# Altium schematic symbol library Mosfet.SchLib: 31 symbols
Pins are listed as number, name and electrical type; pins without a type are passive.

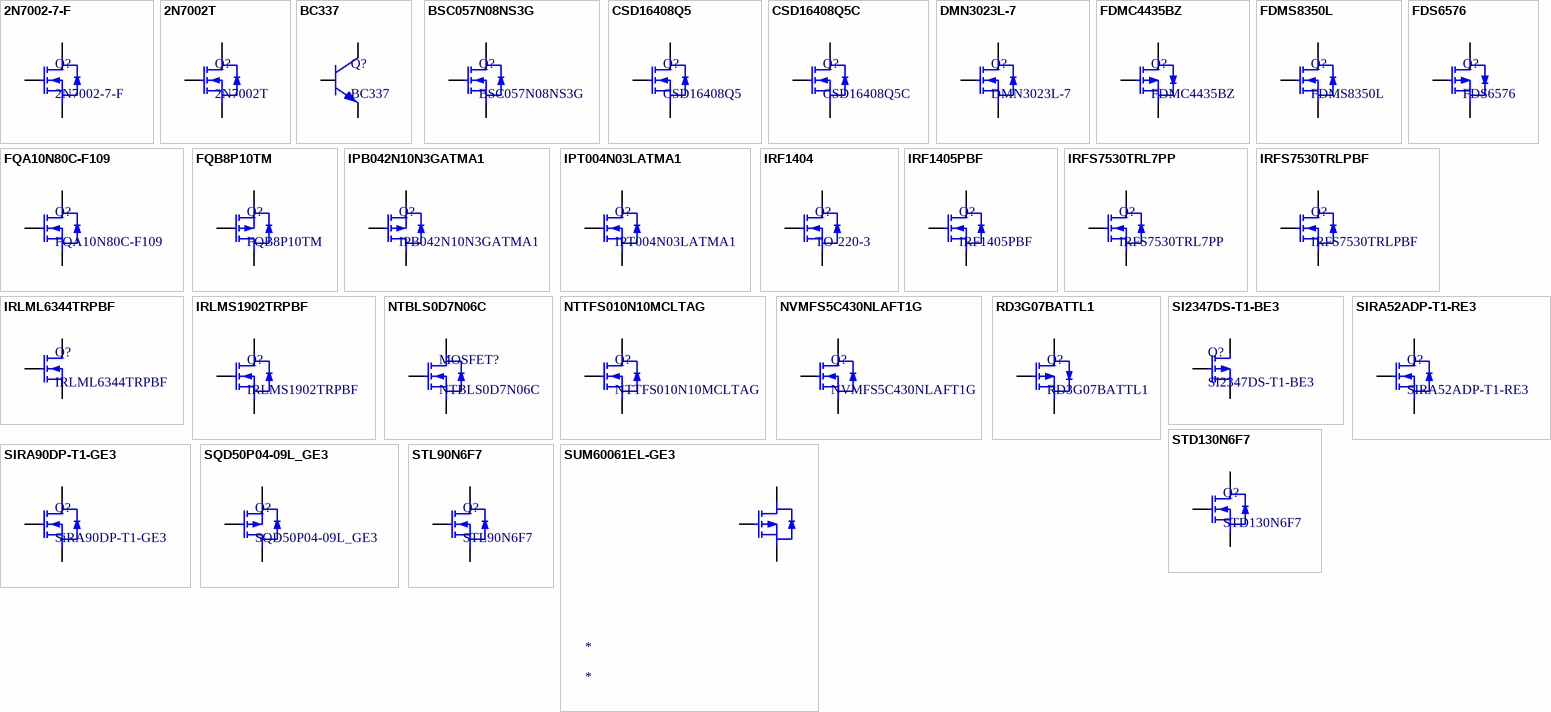
[diagram p0: symbols 2N7002-7-F to SUM60061EL-GE3]

## 2N7002-7-F
designator Q?
MOSFET N-CH 60V SOT-23-3; Manufacturer: DIODES; FET Type: N-Channel; Rds On (Max) @ Id, Vgs: 5 ohm @ 210mA, 20V; Input Capacitance (Ciss) (Max) @Vds: 22pF; Vgs(th) (Max) Id: 2.5V, Id =250uA; Current - Continuous Drain (Id) @25°C: 210mA; Gate Charge (Qg) (Max) @ Vgs: 223pC @ 4.5V; Library Control - Checked Footprint: yes; Library Control - Person that Checked Footprint: Lucas; Power Dissipation (Max): 540 mW; Drive Voltage (Max Rds On, Min Rds On): 5V ~ 10V; Vgs (Max): 20V; Rise / Fall Time (Typ): 3.0 ~ 5.6 (ns); Part Number: 2N7002-7-F; Price: 1=0,20, 10=0,185, 100=0,101, 500=0,062, 1000=0,043 (USD); Package / Case: SOT-23-3; Operating Temperature: -55 °C ~150 °C; Drain to Source Voltage (Vds): 60V; Supplier 1: Mouser; Library Ref: Mosfet; Supplier Part Number 1: 621-2N7002-F; Library Control - Checked Schematic: yes; Library Control - Last Update: 20/06/2021; Library Control - Person that Checked Schematic: Lucas; Library Control - Person that did the Last Update Footprint: Lucas; Library Control - Person that did the Last Update Schematic: Lucas; ComponentLink1Description: Datasheet; ComponentLink1URL: https://www.mouser.com/datasheet/2/115/2N7002-1591994.pdf; ComponentLink2Description: Mouser; ComponentLink2URL: https://www.mouser.com/ProductDetail/Diodes-Incorporated/2N7002-7-F?qs=%2Fha2pyFadugo8BbqEmDB8lzlZH6QdgQJut9pp8zbUks%3D
footprint SOT-23 (SOT23, 3-Leads, Body 2.90x2.40mm, Pitch 0.95mm, IPC Medium Density)
pins: D, G, S

## 2N7002T
designator Q?
MOSFET N-CH 60V 115mA SOT-523F 3L; Manufacturer: ON Semiconductor; FET Type: N- channel; Rds On (Max) @ Id, Vgs: 13.5Ω@0.5A, 10V; Input Capacitance (Ciss) (Max) @Vds: 50pF@25V; Drain to Source Voltage (Vds): 78V; Vgs(th) (Max) Id: 2V@250uA; Library Control - Checked Footprint: Yes; Library Control - Person that Checked Footprint: Nikaum; Library Control - Person that Checked Schematic: Lucas; Library Control - Person that did the Last Update Footprint: Marcos; Power Dissipation (Max): 200mW; Drive Voltage (Max Rds On, Min Rds On): 10V, 5V; Vgs (Max): 20V; Rise / Fall Time (Typ): 5.85 / 12.5 (ns); Part Number: 2N7002T; Price: 1 = $0.42  10 = $0.316  100 = $0.197  500 = $0.135  1000 = $0.104; Package / Case: SOT-523-3; Operating Temperature: -55 to +150°C; Supplier 1: Mouser; Library Ref: Mosfet; Supplier Part Number 1: 512-2N7002T; Current - Continuous Drain (Id) @25°C: 115mA; Gate Charge (Qg) (Max) @ Vgs: -; Library Control - Checked Schematic: Yes; Library Control - Last Update: 15/06/2021; Library Control - Person that did the Last Update Schematic: Nikaum; ComponentLink1Description: Datasheet; ComponentLink1URL: https://www.mouser.com/datasheet/2/308/2N7002T_D-2309323.pdf; ComponentLink2Description: Mouser; ComponentLink2URL: https://br.mouser.com/ProductDetail/ON-Semiconductor-Fairchild/2N7002T?qs=sXL1QONaU67EIDV%2FB54SVA%3D%3D
footprint SOT-523F (SOT23, 3-Leads, Body 1.60x1.60mm, Pitch 0.50mm, IPC Medium Density)
pins: D, G, S

## BC337
designator Q?
Bipolar Transistors - BJT 800mA 50V NPN; Part Number: 2N7002T; Manufacturer: ON Semiconductor; FET Type: N- channel; Rds On (Max) @ Id, Vgs: 13.5Ω@0.5A, 10V; Input Capacitance (Ciss) (Max) @Vds: 50pF@25V; Drain to Source Voltage (Vds): 78V; Vgs(th) (Max) Id: 2V@250uA; Current - Continuous Drain (Id) @25°C: 115mA; Library Control - Checked Footprint: Yes; Library Control - Person that Checked Footprint: Nikaum; Library Control - Person that Checked Schematic: Lucas; Library Control - Person that did the Last Update Footprint: Marcos; Power Dissipation (Max): 200mW; Drive Voltage (Max Rds On, Min Rds On): 10V, 5V; Vgs (Max): 20V; Rise / Fall Time (Typ): 5.85 / 12.5 (ns); Price: 1 = $0.4  10 = $0.321; Package / Case: SOT-523-3; Operating Temperature: -55 to +150°C; Supplier 1: Mouser; Library Ref: Mosfet; Supplier Part Number 1: 512-2N7002T; Gate Charge (Qg) (Max) @ Vgs: -; Library Control - Checked Schematic: Yes; Library Control - Last Update: 15/06/2021; Library Control - Person that did the Last Update Schematic: Nikaum; ComponentLink1Description: Datasheet; ComponentLink1URL: https://br.mouser.com/datasheet/2/308/BC337_D-1802338.pdf; ComponentLink2Description: Mouser; ComponentLink2URL: https://br.mouser.com/ProductDetail/onsemi/BC337?qs=vLkC5FC1VN%252B4ib9MBnXayQ%3D%3D
footprint TO-92R
pins: 1, 2, 3

## BSC057N08NS3G
designator Q?
MOSFET N-CH 80V 100A TDSON-8; Manufacturer: Infineon Technologies; FET Type: N-Channel; Vgs(th) (Max) Id: 2V @ 250 uA; Gate Charge (Qg) (Max) @ Vgs: 56 nC @ 0V; Library Control - Person that Checked Footprint: Tico Liro; Power Dissipation (Max): 114W; Drive Voltage (Max Rds On, Min Rds On): 10V, 4,5V; Vgs (Max): -+20V; Rise / Fall Time (Typ): 14 / 9 (ns); Part Number: BSC057N08NS3G; Price: 1= 2.06, 10= 1.86, 100= 1.50 (USD); Package / Case: TDSON-8; Operating Temperature: -55C~150C; Rds On (Max) @ Id, Vgs: -; Input Capacitance (Ciss) (Max) @Vds: -; Drain to Source Voltage (Vds): 80V; Supplier 1: Mouser; Library Ref: Mosfet; Supplier Part Number 1: 726-BSC057N08NS3G; Current - Continuous Drain (Id) @25°C: 100A; Library Control - Last Update: 27/09/2021; ComponentLink1Description: Datasheet; ComponentLink1URL: https://br.mouser.com/datasheet/2/196/Infineon_BSC057N08NS3_G_DataSheet_v02_05_EN-1226390.pdf; ComponentLink2Description: Mouser; ComponentLink2URL: https://br.mouser.com/ProductDetail/Infineon-Technologies/BSC057N08NS3-G?qs=wK%252BoHS4yu54J8z7X9Qnz4Q%3D%3D
footprint TDSON-8
pins: 1, 2, 3 S, 4 G, 5, 6, 7, 8 D

## CSD16408Q5
designator Q?
MOSFET N-CH 25V 100A VSON-CLIP-8; Manufacturer: Texas Instruments; FET Type: N-Channel; Rds On (Max) @ Id, Vgs: 6.8mOhms @ 4.5A, 25V; Input Capacitance (Ciss) (Max) @Vds: 1300pF@12.5V; Vgs(th) (Max) Id: 2.1V@250uA; Current - Continuous Drain (Id) @25°C: 113 A; Gate Charge (Qg) (Max) @ Vgs: 8.9nC@12.5V; Power Dissipation (Max): 3.1W; Drive Voltage (Max Rds On, Min Rds On): 4.5V ~ 10V; Vgs (Max): 16V; Rise / Fall Time (Typ): 11.3 / 10.8 (ns); Part Number: CSD16408Q5; Price: 2500=0.706 (USD); Package / Case: VSON-CLIP-8; Operating Temperature: -55 °C to +150 °C; Drain to Source Voltage (Vds): 25V; Supplier 1: Mouser; Library Ref: Mosfet; Supplier Part Number 1: 595-CSD16408Q5; ComponentLink1Description: Datasheet; ComponentLink1URL: https://www.ti.com/lit/ds/symlink/csd16408q5.pdf?HQS=dis-mous-null-mousermode-dsf-pf-null-wwe&ts=1660678921678&ref_url=https%253A%252F%252Fbr.mouser.com%252F; ComponentLink2Description: Mouser; ComponentLink2URL: https://br.mouser.com/ProductDetail/Texas-Instruments/CSD16408Q5?qs=DS7Z8uEdLNxj7yOv2l3oIw%3D%3D
footprint VSON-CLIP-8 (SON, 8-Leads, Body 5,00x6,00mm, Pitch 1,27mm, Thermal Pad 4,42x4,02mm, IPC Medium Density)
pins: D, G, S

## CSD16408Q5C
designator Q?
MOSFET N-CH 25V 100A VSON-CLIP-8; Manufacturer: Texas Instruments; FET Type: N-Channel; Rds On (Max) @ Id, Vgs: 6.8mOhms @ 25A, 4.5V; Input Capacitance (Ciss) (Max) @Vds: 1300pF@12.5V; Vgs(th) (Max) Id: 2.1V@250uA; Current - Continuous Drain (Id) @25°C: 113A; Gate Charge (Qg) (Max) @ Vgs: 8.9nC@12.5V; Power Dissipation (Max): 3.1W; Drive Voltage (Max Rds On, Min Rds On): 4.5V ~ 10V; Vgs (Max): 16V; Rise / Fall Time (Typ): 25 / 10.8 (ns); Part Number: CSD16408Q5C; Price: 1=1.70, 10=1.42, 100=1.13, 250=1.10, 500=0.955, 1000=0.84 (USD); Package / Case: VSON-CLIP-8; Operating Temperature: -55 °C to +150 °C; Drain to Source Voltage (Vds): 25V; Supplier 1: Mouser; Library Ref: Mosfet; Supplier Part Number 1: 595-CSD16408Q5C; ComponentLink1Description: Datasheet; ComponentLink1URL: https://pdf1.alldatasheet.com/datasheet-pdf/view/345531/TI/CSD16408Q5C.html; ComponentLink2Description: Mouser; ComponentLink2URL: https://br.mouser.com/ProductDetail/Texas-Instruments/CSD16408Q5C?qs=%2Fqzd9s%252BcLd4JMzN%2FAPZk3A%3D%3D
footprint VSON-CLIP-8 (SON, 8-Leads, Body 5,00x6,00mm, Pitch 1,27mm, Thermal Pad 4,42x4,02mm, IPC Medium Density)
pins: D, G, S

## DMN3023L-7
designator Q?
MOSFET N-CH 30V SOT-23-3; Manufacturer: DIODES; FET Type: N-Channel; Rds On (Max) @ Id, Vgs: 68mOhms @ 2.5A, 2.5V; Input Capacitance (Ciss) (Max) @Vds: 873pF@15V; Vgs(th) (Max) Id: 1.8V@250uA; Current - Continuous Drain (Id) @25°C: 6.2 A; Gate Charge (Qg) (Max) @ Vgs: 18.4nC@10V; Library Control - Checked Schematic: yes; Library Control - Person that Checked Footprint: Lucas; Power Dissipation (Max): 1.3W; Drive Voltage (Max Rds On, Min Rds On): 2.5V ~ 10V; Vgs (Max): 20V; Rise / Fall Time (Typ): 18 /  70 (ns); Part Number: DMN3023L-7; Price: 1=0,39, 10=0,285, 100=0,179, 500=0,166, 1000=0,113 (USD); Package / Case: SOT-23-3; Operating Temperature: -55 °C ~150 °C; Drain to Source Voltage (Vds): 30V; Supplier 1: Mouser; Library Ref: Mosfet; Supplier Part Number 1: 621-DMN3023L-7; Library Control - Last Update: Lucas; Library Control - Person that Checked Schematic: Lucas; Library Control - Person that did the Last Update Schematic: Lucas; ComponentLink1Description: Datasheet; ComponentLink1URL: https://www.mouser.com/datasheet/2/115/DMN3023L-959533.pdf; ComponentLink2Description: Mouser; ComponentLink2URL: https://www.mouser.com/ProductDetail/Diodes-Incorporated/DMN3023L-7?qs=MNIFWdyJgbpS4HSLyrAo5g%3D%3D
footprint SOT-23 (SOT23, 3-Leads, Body 2.90x2.40mm, Pitch 0.95mm, IPC Medium Density)
pins: D, G, S

## FDMC4435BZ
designator Q?
MOSFETs -30V P-Channel PowerTrench; Manufacturer: ON Semiconductor / Fairchild; Package Body Material: Plastic; Transistor Element Material: SILICON; Drain Current-Max (Abs) (ID): 31A; FET Technology: METAL-OXIDE SEMICONDUCTOR; Operating Mode: ENHANCEMENT MODE; Power Dissipation-Max (Abs): 31W; Case Connection: DRAIN; Drain Current-Max (ID): 8.5A; Drain-source On Resistance-Max: 20mR; DS Breakdown Voltage-Min: 30V; Number of Elements: 1; Pulsed Drain Current-Max (IDM): 50A; Transistor Application: SWITCHING; Avalanche Energy Rating (Eas): 24mJ; Qualification Status: Not Qualified; Supplier: Mouser; Supplier Part Number: 512-FDMC4435BZ; Part Number: FDMC4435BZ; RoHS: Yes; Category: MOSFETs; Stock: 65461; Pricing: 1=1,18, 10=0,861, 50=0,861, 100=0,61, 1000=0,453, 10000=0,394 (USD); Pins: 5; Terminal Finish: Nickel; Package Shape: Square; Max Operating Temperature: 150°C; JESD-609 Code: e4; Polarity/Channel Type: P-CHANNEL; Moisture Sensitivity Level: 1; Surface Mount: Yes; Package Style: SMALL OUTLINEMeter; Terminal Form: No Lead; Terminal Position: DUAL; Reach SVHC Compliant: Yes; RoHS Compliant: Yes; ComponentLink1URL: https://datasheet.ciiva.com:443/pdfs/VipMasterIC/IC/ONSM/ONSM-S-A0003586522/ONSM-S-A0003586494-1.pdf?src-supplier=IHS+Markit; ComponentLink1Description: https://datasheet.ciiva.com:443/pdfs/VipMasterIC/IC/ONSM/ONSM-S-A0003586522/ONSM-S-A0003586494-1.pdf?src-supplier=IHS+Markit; ComponentLink2URL: https://datasheet.ciiva.com/28689/1524011-28689235.pdf?src-supplier=Element14; ComponentLink2Description: https://datasheet.ciiva.com/28689/1524011-28689235.pdf?src-supplier=Element14; ComponentLink3URL: https://datasheet.ciiva.com/11175/fdmc4435bz-11175600.pdf?src-supplier=Avnet; ComponentLink3Description: https://datasheet.ciiva.com/11175/fdmc4435bz-11175600.pdf?src-supplier=Avnet; ComponentLink4URL: https://datasheet.ciiva.com/22655/1837765-22655318.pdf?src-supplier=Element14; ComponentLink4Description: https://datasheet.ciiva.com/22655/1837765-22655318.pdf?src-supplier=Element14; ComponentLink5URL: https://datasheet.ciiva.com/7967/1837765-7967941.pdf?src-supplier=Element14; ComponentLink5Description: https://datasheet.ciiva.com/7967/1837765-7967941.pdf?src-supplier=Element14; ComponentLink6URL: https://datasheet.ciiva.com/6377/fdmc4435bz-6377064.pdf?src-supplier=Digikey; ComponentLink6Description: https://datasheet.ciiva.com/6377/fdmc4435bz-6377064.pdf?src-supplier=Digikey; ComponentLink7URL: https://datasheet.ciiva.com/6377/fdmc4435bz-6377067.pdf?src-supplier=Digikey; ComponentLink7Description: https://datasheet.ciiva.com/6377/fdmc4435bz-6377067.pdf?src-supplier=Digikey; ComponentLink8URL: https://datasheet.ciiva.com/16926/fdmc4435bz-16926461.pdf?src-supplier=Future+Electronics; ComponentLink8Description: https://datasheet.ciiva.com/16926/fdmc4435bz-16926461.pdf?src-supplier=Future+Electronics
footprint SON65P300X80-8N (SON, 8-Leads, Body 3,30x3,00mm, Pitch 0,65mm, IPC Medium Density)
pins: D, G, S

## FDMS8350L
designator Q?
MOSFET N-CH 40V 200 A Power-56-8; Manufacturer: onsemi; FET Type: N-channel; Rds On (Max) @ Id, Vgs: 1,2 mOhm @ 27A, 10V; Input Capacitance (Ciss) (Max) @Vds: 12500pF@20 V; Vgs(th) (Max) Id: 3V@250uA; Current - Continuous Drain (Id) @25°C: 141 A; Gate Charge (Qg) (Max) @ Vgs: 173 nC; Library Control - Person that did the Last Update Footprint: Firme; Power Dissipation (Max): 113W; Drive Voltage (Max Rds On, Min Rds On): 0,71V , 1,2V; Vgs (Max): 20V; Rise / Fall Time (Typ): 22/ 18 (ns); Part Number: FDMS8350L; Price: 1 = $1.36  10 = $1.22  100 = $0.952  500 = $0.786  1000 = $0.621; Package / Case: Power-56-8; Operating Temperature: -55 ~ 150°C; Drain to Source Voltage (Vds): 40V; Supplier 1: Mouser; Library Ref: Mosfet; Supplier Part Number 1: 512-FDMS8350L; Library Control - Last Update: 21/09/2022; Library Control - Person that did the Last Update Schematic: Firme; ComponentLink1Description: Datasheet; ComponentLink1URL: https://br.mouser.com/datasheet/2/308/1/FDMC8360LET40_D-1807762.pdf; ComponentLink2Description: Mouser; ComponentLink2URL: https://br.mouser.com/ProductDetail/onsemi-Fairchild/FDMC8360LET40?qs=sGAEpiMZZMutXGli8Ay4kHQYh3CSS0g6VL13aFD0NOs%3D
footprint FDMC7660S
pins: D, G, S

## FDS6576
designator Q?
MOSFET P-CH 20V 11A SOIC-8; Manufacturer: onsemi / Fairchild; FET Type: P-Channel; Rds On (Max) @ Id, Vgs: 23mOhms @ -11A, -4.5V; Input Capacitance (Ciss) (Max) @Vds: 4044pF@-10V; Drain to Source Voltage (Vds): -20V; Vgs(th) (Max) Id: -1.5V@-250uA; Current - Continuous Drain (Id) @25°C: -11A; Gate Charge (Qg) (Max) @ Vgs: 60nC@-4.5V; Power Dissipation (Max): 2.5W; Drive Voltage (Max Rds On, Min Rds On): -2.5V ~4.5V; Vgs (Max): 12V; Rise / Fall Time (Typ): 17 / 79 (ns); Part Number: SOIC-8; Price: 1=1.34, 10=1.20, 100=0.932, 500=0.77, 1000=0.608 (USD); Package / Case: SOIC-8; Operating Temperature: -55 °C ~150 °C; Supplier 1: Mouser; Library Ref: Mosfet; Supplier Part Number 1: 512-FDS6576; ComponentLink1Description: Datasheet; ComponentLink1URL: https://br.mouser.com/datasheet/2/308/1/FDS6576_D-1808687.pdf; ComponentLink2Description: Mouser; ComponentLink2URL: https://br.mouser.com/ProductDetail/onsemi-Fairchild/FDS6576?qs=FOlmdCx%252BAA1N14vq5QZP7Q%3D%3D
footprint SOIC-8 (SOIC, 8-Leads, Body 4,90x3,90mm, Pitch 1,27mm, IPC Medium Density)
pins: D, G, S

## FQA10N80C-F109
designator Q?
MOSFET N-CH 800V 10A TO-3PN; Manufacturer: ON Semiconductor; FET Type: N- channel; Rds On (Max) @ Id, Vgs: 1.1 Ω@5A,10V; Input Capacitance (Ciss) (Max) @Vds: 2800pF@25 V; Vgs(th) (Max) Id: 5.0V @250uA; Gate Charge (Qg) (Max) @ Vgs: 58nC@10V; Library Control - Checked Footprint: Yes; Library Control - Person that Checked Footprint: Nikaum, Lucas; Library Control - Person that did the Last Update Footprint: Nikaum; Power Dissipation (Max): 240 W; Drive Voltage (Max Rds On, Min Rds On): 10V, 10V; Vgs (Max): 30V; Rise / Fall Time (Typ): 130 / 80 (ns); Part Number: FQA10N80C-F109; Price: 1 =$3.47  10 = $3.13  100 = $2.56  500 = $2.17  1000 = $1.83; Package / Case: TO-3PN-3; Operating Temperature: -55 to +150 °C; Drain to Source Voltage (Vds): 800V; Supplier 1: Mouser; Library Ref: Mosfet; Supplier Part Number 1: 512-FQA10N80C_F109; Current - Continuous Drain (Id) @25°C: 10A; Library Control - Checked Schematic: Yes; Library Control - Last Update: 15/06/2021; Library Control - Person that Checked Schematic: Nikaum, Lucas; Library Control - Person that did the Last Update Schematic: Nikaum; ComponentLink1Description: Datasheet; ComponentLink1URL: https://www.mouser.com/datasheet/2/308/1/FQA10N80C_F109_D-2313581.pdf; ComponentLink2Description: Mouser; ComponentLink2URL: https://br.mouser.com/ProductDetail/ON-Semiconductor-Fairchild/FQA10N80C-F109?qs=0lQeLiL1qyb%2FzpB%252Bw6JOSg%3D%3D
footprint TO-3PN-3
pins: D, G, S

## FQB8P10TM
designator Q?
MOSFET P-CH 100V TO-263-3; Manufacturer: Onsemi; FET Type: P- channel; Rds On (Max) @ Id, Vgs: 530mOhms; Vgs(th) (Max) Id: 4V; Current - Continuous Drain (Id) @25°C: 8A; Gate Charge (Qg) (Max) @ Vgs: 15nC; Power Dissipation (Max): 3.75W; Vgs (Max): 30V; Rise / Fall Time (Typ): 110ns/35ns; Part Number: FQB8P10TM; Price: 1= 1,21, 10= 1,06, 100= 0,832(USD); Package / Case: TO-263-3; Operating Temperature: -55C ~ +175C; Drain to Source Voltage (Vds): 100V; Supplier 1: Mouser; Library Ref: Mosfet; Supplier Part Number 1: 512-FQB8P10TM; Drive Voltage (Max Rds On, Min Rds On): -; ComponentLink1Description: Datasheet; ComponentLink1URL: https://br.mouser.com/datasheet/2/308/1/FQB8P10_D-2314124.pdf; ComponentLink2Description: Mouser; ComponentLink2URL: https://br.mouser.com/ProductDetail/onsemi-Fairchild/FQB8P10TM?qs=FOlmdCx%252BAA2XwtaZMJ1KGg%3D%3D
footprint TO-252-3 - duplicate (D-PAK, 3-Pads, Body 6,21x6,73mm (max), IPC Medium Density)
pins: 1, 3, 4

## IPB042N10N3GATMA1
designator Q?
MOSFET N-CH 100V TO-263-3; Manufacturer: Infineon; FET Type: N-Channel; Rds On (Max) @ Id, Vgs: 4.2 mOhms; Vgs(th) (Max) Id: 2V; Current - Continuous Drain (Id) @25°C: 100A; Gate Charge (Qg) (Max) @ Vgs: 15nC; Power Dissipation (Max): 214 W; Vgs (Max): 30V; Rise / Fall Time (Typ): 27/48 ns; Part Number: IPB042N10N3GATMA1; Price: 1= 1,21, 10= 1,06, 100= 0,832(USD); Package / Case: TO-263-3; Operating Temperature: -55C ~ +175C; Drain to Source Voltage (Vds): 100V; Supplier 1: Mouser; Library Ref: Mosfet; Supplier Part Number 1: 726-IPB042N10N3GATMA; Drive Voltage (Max Rds On, Min Rds On): -; ComponentLink1Description: Datasheet; ComponentLink1URL: https://br.mouser.com/datasheet/2/196/Infineon-IPB042N10N3_G-DS-v02_09-EN-1731626.pdf; ComponentLink2Description: Mouser; ComponentLink2URL: https://br.mouser.com/ProductDetail/Infineon-Technologies/IPB042N10N3GATMA1?qs=OwbwYO03UsIUcISSLP9Lmg%3D%3D
footprint TO-252-3 - duplicate (D-PAK, 3-Pads, Body 6,21x6,73mm (max), IPC Medium Density)
pins: 1, 3, 4

## IPT004N03LATMA1
designator Q?
MOSFET N-CH 30V PG-HSOF-8-1; Manufacturer: Infineon; FET Type: N-Channel; Power - Max: 300 W; Rds On (Max) @ Id, Vgs: 0.5 mΩ @ 150 A, 4.5 V; Input Capacitance (Ciss) (Max) @Vds: 24000 pF @ 15 V; Vgs(th) (Max) @ Id: 2.2 V @ 250 uA; Current - Continuous Drain (Id) @25°C: 300 A; Gate Charge (Qg) (Max) @ Vgs: 336 nC @ 10 V; Library Control - Checked Footprint: Yes; Library Control - Person that Checked Footprint: Nikaum, Lucas; Library Control - Person that did the Last Update Footprint: Janela; Drive Voltage (Max Rds On, Min Rds On): 10 V, 4.5 V; Vgs(max): 20 V; Rise / Fall Time (Typ): 17 ns / 37 ns; Part Number: IPT004N03LATMA1; Price: 1=5.33, 10=4,79, 100=3,93, 500 = 3,35, 1000 = 2,87 (USD); Package / Case: PG-HSOF-8-1; Operating Temperature: -55 ~ 150 °C; ComponentLink1Description: Datasheet; ComponentLink1URL: https://www.mouser.com/datasheet/2/196/Infineon-IPT004N03L-DS-v02_00-EN-1227267.pdf; ComponentLink2Description: Mouser; ComponentLink2URL: https://br.mouser.com/ProductDetail/Infineon-Technologies/IPT004N03LATMA1?qs=WkdRfq4wf1PQ3zB1legiWQ%3D%3D; Drain to Source Voltage (Vdss): 30 V; Supplier 1: Mouser; Library Ref: Mouser; Supplier Part Number 1: 726-IPT004N03LATMA1; Library Control - Last Update: 20/06/2021; Library Control - Person that Checked Schematic: Nikaum, Lucas; Library Control - Person that did the Last Update Schematic: Nikaum, Lucas; Library Control - Checked Schematic: Yes
footprint PG-HSOF-8-1 (HSOF, 8-Leads, Body 11.675x9.9mm, Pitch 1.2mm)
pins: D, G, S

## IRF1404
designator Q?, comment TO-220-3
MOSFET N-CH 40V 162A TO-220-3; Manufacturer: IOR Rectifier; FET Type: N-Channel; Rds On (Max) @ Id, Vgs: 4 mOhm @ 121A, 10V; Input Capacitance (Ciss) (Max) @Vds: 5669 pF @ 25 V; Drain to Source Voltage (Vds): 55 V; Vgs(th) (Max) Id: 4V@250uA; Current - Continuous Drain (Id) @25°C: 202A; Gate Charge (Qg) (Max) @ Vgs: 196nC@10V; Power Dissipation (Max): 333W; Drive Voltage (Max Rds On, Min Rds On): 10V, 10V; Vgs (Max): 20V; Rise / Fall Time (Typ): 190 / 33 (ns); Part Number: TO-220-3; Price: -; Package / Case: TO-220-3; Operating Temperature: -55 °C to +175 °C; Supplier 1: Mouser; Library Ref: Mosfet; Supplier Part Number 1: Not Assigned; ComponentLink1Description: Datasheet; ComponentLink1URL: https://br.mouser.com/ProductDetail/Infineon-IR/IRF1404?qs=zO0nedAqnNJ5rX3FuoOJoQ%3D%3D; ComponentLink2Description: Mouser; ComponentLink2URL: https://www.mouser.com/catalog/specsheets/international%20rectifier_irf1404.pdf
footprint TO-220-3
pins: D, G, S

## IRF1405PBF
designator Q?
MOSFET N-CH 55V 133A TO-220-3; Manufacturer: IOR Rectifier; FET Type: N-Channel; Rds On (Max) @ Id, Vgs: 5.3mOhm @ 101A, 10V; Input Capacitance (Ciss) (Max) @Vds: 5480pF@25V; Vgs(th) (Max) Id: 4V@250uA; Current - Continuous Drain (Id) @25°C: 169A; Gate Charge (Qg) (Max) @ Vgs: 260nC@10V; Library Control - Checked Schematic: yes; Library Control - Person that Checked Schematic: Lucas; Power Dissipation (Max): 330W; Drive Voltage (Max Rds On, Min Rds On): 10V, 10V; Vgs (Max): 20V; Rise / Fall Time (Typ): 190 / 110 (ns); Part Number: IRF1405PBF; Price: 1=2,56, 10=2,31, 100=1,86, 500=1,53, 1000=1,23 (USD); Package / Case: TO-220AB; Operating Temperature: -55 °C ~ 175 °C; Drain to Source Voltage (Vds): 55V; Supplier 1: Mouser; Library Ref: Mosfet; Supplier Part Number 1: 942-IRF1405PBF; Library Control - Last Update: 20/06/2020; Library Control - Person that did the Last Update Schematic: Lucas; ComponentLink1Description: Datasheet; ComponentLink1URL: https://www.mouser.com/datasheet/2/196/Infineon_IRF1405_DataSheet_v01_01_EN-1732404.pdf; ComponentLink2Description: Mouser; ComponentLink2URL: https://www.mouser.com/ProductDetail/Infineon-IR/IRF1405PBF?qs=%2Fha2pyFaduicxgwQeFSVVXX9VdmZ7DxpfZpPhcIFXOJCv4ujcHBLnQ%3D%3D
footprint TO-220-3
pins: D, G, S

## IRFS7530TRL7PP
designator Q?
Trans MOSFET N-CH Si 60V 338A 7-Pin(6+Tab) D2PAK T/R / MOSFET N CH 60V 240A D2PAK; Manufacturer: Infineon; FET Type: N-Channel; Rds On (Max) @ Id, Vgs: 1.4mOhm @ 240A, 20V; Input Capacitance (Ciss) (Max) @Vds: 5480pF@25V; Drain to Source Voltage (Vds): 60; Vgs(th) (Max) Id: 3.7V@250uA; Gate Charge (Qg) (Max) @ Vgs: 260nC@10V; Library Control - Checked Schematic: yes; Library Control - Person that Checked Schematic: Uber; Power Dissipation (Max): 375W; Drive Voltage (Max Rds On, Min Rds On): 20V, 20V; Vgs (Max): 20V; Rise / Fall Time (Typ): 102 / 79 (ns); Part Number: IRFS7530TRL7PP; Price: 1=2,56, 10=2,31, 100=2.46, 500=2.32, 1000=1.85 (USD); Package / Case: TO-263-7; Operating Temperature: -55 °C ~ 175 °C; Library Ref: Mosfet; Current - Continuous Drain (Id) @25°C: 240A; Library Control - Last Update: 19/11/2023; Library Control - Person that did the Last Update Schematic: Uber; ComponentLink1Description: Datasheet; ComponentLink1URL: https://br.mouser.com/datasheet/2/196/Infineon_IRFS7530_7P_DataSheet_v01_01_EN-3363419.pdf
footprint TO-263-7; pin to pad D>4 G>1 S>2+3+5+6+7
pins: D, G, S

## IRFS7530TRLPBF
designator Q?
MOSFET N CH 60V 195A D2PAK / Trans MOSFET N-CH Si 60V 295A 3-Pin(2+Tab) D2PAK T/R; Manufacturer: DIODES; FET Type: N-Channel; Rds On (Max) @ Id, Vgs: 5 ohm @ 210mA, 20V; Input Capacitance (Ciss) (Max) @Vds: 22pF; Vgs(th) (Max) Id: 2.5V, Id =250uA; Current - Continuous Drain (Id) @25°C: 210mA; Gate Charge (Qg) (Max) @ Vgs: 223pC @ 4.5V; Library Control - Checked Footprint: yes; Library Control - Person that Checked Footprint: Uber; Power Dissipation (Max): 375 W; Drive Voltage (Max Rds On, Min Rds On): 5V ~ 10V; Vgs (Max): 20V; Rise / Fall Time (Typ): 3.0 ~ 5.6 (ns); Part Number: IRFS7530TRLPBF; Price: 1=2,70, 10=2,45, 100=2,08, 500=1,92, 800=1,61 (USD); Package / Case: D2PAK (TO-252-3); Operating Temperature: -55 °C ~175 °C; Drain to Source Voltage (Vds): 60V; Supplier 1: Mouser; Library Ref: Mosfet; Supplier Part Number 1: 621-2N7002-F; Library Control - Checked Schematic: yes; Library Control - Last Update: 25/10/2023; Library Control - Person that Checked Schematic: Uber; Library Control - Person that did the Last Update Footprint: Uber; Library Control - Person that did the Last Update Schematic: Uber; ComponentLink1Description: Datasheet; ComponentLink1URL: https://www.mouser.com/datasheet/2/196/Infineon_IRFS7530_DataSheet_v01_01_EN-3166499.pdf; ComponentLink2Description: Mouser; ComponentLink2URL: https://www.mouser.com/ProductDetail/Infineon-Technologies/IRFS7530TRLPBF?qs=a7rcPCEf1Q82sXYCzw8lhQ%3D%3D
footprint TO263-3
pins: D, G, S

## IRLML6344TRPBF
designator Q?
MOSFET N-CH 30V 5A SOT-23-3; Manufacturer: IOR Rectifier; FET Type: N-Channel; Rds On (Max) @ Id, Vgs: 29mOhm @ 5A, 4.5V; Input Capacitance (Ciss) (Max) @Vds: 650 pF @ 25 V; Vgs(th) (Max) Id: 1.1 V @ 10uA; Current - Continuous Drain (Id) @25°C: 5.0 A; Gate Charge (Qg) (Max) @ Vgs: 6.8 nC @ 4.5 V; Power Dissipation (Max): 1.3 W; Drive Voltage (Max Rds On, Min Rds On): 4.5V, 2.5V; Vgs (Max): 12 V; Rise / Fall Time (Typ): 5.6 / 9.1 (ns); Part Number: IRLML6344TRPBF; Price: 1=0.61, 10=0.496, 100=0.338, 500=0.254, 1000=0.191 (USD); Package / Case: SOT-23-3; Operating Temperature: -55 °C to 150 °C; Drain to Source Voltage (Vds): 30 V; Supplier 1: Mouser; Library Ref: Mosfet; Supplier Part Number 1: 942-IRLML6344TRPBF; ComponentLink1Description: Datasheet; ComponentLink1URL: *https://br.mouser.com/datasheet/2/196/Infineon_IRLML6344_DataSheet_v01_01_EN-1228041.pdf; ComponentLink2Description: Mouser; ComponentLink2URL: *https://br.mouser.com/ProductDetail/Infineon-IR/IRLML6344TRPBF?qs=9%252BKlkBgLFf2w4qS48UOXVw%3D%3D
footprint SOT-23-3 (SOT223, 3-Leads, Body 2,90x2,40mm (avg), Pitch 1,83mm, IPC Medium Density)
pins: D, G, S

## IRLMS1902TRPBF
designator Q?
MOSFET N-CH 20V 3.2A Micro-6; Manufacturer: Infineon; FET Type: N-Channel; Rds On (Max) @ Id, Vgs: 170mOhm @ 1.1A, 2.7V; Input Capacitance (Ciss) (Max) @Vds: 300 pF @ 15 V; Vgs(th) (Max) Id: 0.7 V @ 250uA; Gate Charge (Qg) (Max) @ Vgs: 7.0 nC @ 4.5 V; Power Dissipation (Max): 1.7 W; Drive Voltage (Max Rds On, Min Rds On): 2.7V, 2.5V; Vgs (Max): 12 V; Rise / Fall Time (Typ): 11 / 4.0 (ns); Part Number: IRLMS1902TRPBF; Price: 1=0.65, 10=0.56, 100=0.418, 500=0.328, 1000=0.254, 3000=0.248; Package / Case: Micro-6; Operating Temperature: -55 °C to +150 °C; Drain to Source Voltage (Vds): 20 V; Supplier 1: Mouser; Library Ref: Mosfet; Supplier Part Number 1: 942-IRLMS1902TRPBF; Current - Continuous Drain (Id) @25°C: 3.2 A; ComponentLink1Description: Datasheet; ComponentLink1URL: https://br.mouser.com/datasheet/2/196/Infineon_IRLMS1902_DataSheet_v01_01_EN-1732986.pdf; ComponentLink2Description: Mouser; ComponentLink2URL: https://br.mouser.com/ProductDetail/Infineon-IR/IRLMS1902TRPBF?qs=9%252BKlkBgLFf1kXrfqVwcVMw%3D%3D
footprint MICRO 6 (SOT23, 6-Leads, Body 2,90x2,80mm, Pitch 0,95mm, IPC Medium Density)
pins: D, G, S

## NTBLS0D7N06C
designator MOSFET?
MOSFET N-CH 60V H-PSOF8L; Manufacturer: ON Semiconductor; FET Type: N-Channel; Power - Max: 314 W; Rds On (Max) @ Id, Vgs: 1.20 mOhms @ 66 A, 6 V; Input Capacitance (Ciss) (Max) @Vds: 13730 pF @ 30 V; Vgs(th) (Max) @ Id: 4.0 V @ 661 uA; Current - Continuous Drain (Id) @25°C: 470 A @ 25 °C; Gate Charge (Qg) (Max) @ Vgs: 170 nC @ 10 V; Library Control - Checked Footprint: Yes; Library Control - Person that Checked Footprint: Nikaum, Lucas; Library Control - Person that did the Last Update Footprint: Janela; Drive Voltage (Max Rds On, Min Rds On): 6V, 10V; Vgs(max): 20 V; Rise / Fall Time (Typ): 57 ns / 105 ns; Part Number: NTBLS0D7N06C; Price: 1=6.34, 10=5,71, 100=4,68 (USD); Package / Case: H-PSOF8L; Operating Temperature: -55 °C to 175 °C; ComponentLink1Description: Datasheet; ComponentLink1URL: https://br.mouser.com/datasheet/2/308/1/NTBLS0D7N06C_D-2318754.pdf; ComponentLink2Description: Mouser; ComponentLink2URL: https://br.mouser.com/ProductDetail/ON-Semiconductor/NTBLS0D7N06C?qs=%2Fha2pyFadugGEB1UxNzDp431XuTF94UfK0t6rm91wX8zeL7jEAQagw%3D%3D; Drain to Source Voltage (Vdss): 60 V; Supplier 1: Mouser; Library Ref: Mosfet; Supplier Part Number 1: 863-NTBLS0D7N06C; Library Control - Last Update: 20/06/2021; Library Control - Person that Checked Schematic: Nikaum, Lucas; Library Control - Person that did the Last Update Schematic: Nikaum, Lucas; Library Control - Checked Schematic: Yes
footprint H-PSOF8L
pins: D, G, S

## NTTFS010N10MCLTAG
designator Q?
MOSFET N-CH 100V 50A WDFN-8; Manufacturer: onsemi; FET Type: N-Channel; Vgs(th) (Max) Id: 3V @ 250 uA; Gate Charge (Qg) (Max) @ Vgs: 56 nC @ 0V; Library Control - Person that Checked Footprint: Tico Liro; Power Dissipation (Max): 52W; Vgs (Max): -+20V; Rise / Fall Time (Typ): 3 / 5 (ns); Part Number: NTTFS010N10MCLTAG; Price: 1= 1.56, 10= 1.29, 100= 0.993(USD); Package / Case: WDFN-8; Operating Temperature: -55C~150C; Rds On (Max) @ Id, Vgs: -; Input Capacitance (Ciss) (Max) @Vds: -; Drain to Source Voltage (Vds): 100V; Supplier 1: Mouser; Library Ref: Mosfet; Supplier Part Number 1: 863-NTTFS010N10MCLTG; Current - Continuous Drain (Id) @25°C: 50A; Library Control - Last Update: 27/09/2021; Drive Voltage (Max Rds On, Min Rds On): -; ComponentLink1Description: Datasheet; ComponentLink1URL: https://br.mouser.com/datasheet/2/308/1/NTTFS010N10MCL_D-2319381.pdf; ComponentLink2Description: Mouser; ComponentLink2URL: https://br.mouser.com/ProductDetail/onsemi/NTTFS010N10MCLTAG?qs=%2Fha2pyFadugpxPK5yzEeeRQRrV3KgbmRqYlXFFcWVf4%2FBvtQ5mwE8cvLmsbhs3P6
footprint WDFN-8
pins: 1, 2, 3 S, 4 G, 5, 6, 7, 8 D

## NVMFS5C430NLAFT1G
designator Q?
MOSFET N-CH 40V SO-8FL; Manufacturer: ON Semiconductor; FET Type: N-Channel; Power - Max: 110 W; Rds On (Max) @ Id, Vgs: 2.2 mOhms @ 50 A, 4.5 V; Input Capacitance (Ciss) (Max) @Vds: 4300 pF @ 20 V; Vgs(th) (Max) @ Id: 2V @ 250uA; Current - Continuous Drain (Id) @25°C: 200 A @ 25 °C; Gate Charge (Qg) (Max) @ Vgs: 70 nC @ 10 V; Library Control - Checked Footprint: Yes; Library Control - Person that Checked Footprint: Nikaum, Lucas; Library Control - Person that did the Last Update Footprint: Janela; Drive Voltage (Max Rds On, Min Rds On): 4.5 V, 10 V; Vgs(max): 20; Rise / Fall Time (Typ): 140 ns / 9 ns; Part Number: NVMFS5C430NLAFT1G; Price: 1=1.60, 10=1,44, 100=1,13 , 500 = 0,928, 1000 = 0,732 (USD); Package / Case: SO-8FL; Operating Temperature: -55°C to +175°C; ComponentLink1Description: Datasheet; ComponentLink1URL: https://www.mouser.com/datasheet/2/308/1/NVMFS5C430NL_D-2319498.pdf; ComponentLink2Description: Mouser; ComponentLink2URL: https://br.mouser.com/ProductDetail/ON-Semiconductor/NVMFS5C430NLAFT1G?qs=%2Fha2pyFadugrWtVZPdJqyoWbWrH%252BHMcKF%2Fx%2FgJ5CtYec2a2beZTtEvP1Ys0lp4pa; Drain to Source Voltage (Vdss): 40 V; Supplier 1: Mouser; Library Ref: Mosfet; Supplier Part Number 1: 863-NVMFS5C430NLFT1G; Library Control - Last Update: 15/06/2021; Library Control - Person that Checked Schematic: Nikaum, Lucas; Library Control - Person that did the Last Update Schematic: Nikaum, Lucas; Library Control - Checked Schematic: Yes
footprint SO-8FL
pins: D, G, S

## RD3G07BATTL1
designator Q?
MOSFET P-CH -40V TO-252-3; Manufacturer: ROHM Semiconductor; FET Type: P-Channel; Rds On (Max) @ Id, Vgs: 8,7mOhms @ -35A, -4,5V; Input Capacitance (Ciss) (Max) @Vds: 5550pF@-20V; Vgs(th) (Max) Id: -2,5V@-1mA; Current - Continuous Drain (Id) @25°C: 70 A; Gate Charge (Qg) (Max) @ Vgs: 105nC@-10V; Library Control - Checked Footprint: Yes; Library Control - Last Project that Used: Fuijin-MK1; Library Control - Person that Checked Footprint: Guilherme; Power Dissipation (Max): 101W; Drive Voltage (Max Rds On, Min Rds On): -10V ~ -4,5V; Vgs (Max): 20V; Rise / Fall Time (Typ): 90 /  200 (ns); Part Number: RD3G07BATTL1; Price: 1=2,16, 10=1,98, 100=1,64, (USD); Package / Case: TO-252-3; Operating Temperature: -55 °C ~150 °C; Drain to Source Voltage (Vds): -40V; Supplier 1: Mouser; Library Ref: Mosfet; Supplier Part Number 1: 755-RD3G07BATTL1; Library Control - Checked Schematic: Yes; Library Control - Last Update: 17/07/2021 18:32; Library Control - Person that Checked Schematic: Guilherme; Library Control - Person that did the Last Update Footprint: Guilherme; Library Control - Person that did the Last Update Schematic: Guilherme; ComponentLink1Description: Datasheet; ComponentLink1URL: https://fscdn.rohm.com/en/products/databook/datasheet/discrete/transistor/mosfet/rd3g07battl1-e.pdf; ComponentLink2Description: Mouser; ComponentLink2URL: https://br.mouser.com/ProductDetail/ROHM-Semiconductor/RD3G07BATTL1?qs=IS%252B4QmGtzzrhhJQumqWXMA%3D%3D
footprint RD3L01BATTL1
pins: D, G, S

## SI2347DS-T1-BE3
designator Q?
MOSFET P-CH 30V 5A SOT-23-3; Manufacturer: 78-SI2347DS-T1-BE3; FET Type: P-Channel; Rds On (Max) @ Id, Vgs: 33 mOhm; Input Capacitance (Ciss) (Max) @Vds: 705 pF; Vgs(th) (Max) Id: 2.5V; Gate Charge (Qg) (Max) @ Vgs: 6.9 nC; Library Control - Checked Footprint: Yes; Library Control - Person that did the Last Update Footprint: Pierre; Power Dissipation (Max): 1.7 W; Vgs (Max): 20V; Rise / Fall Time (Typ): 9 ns; Part Number: SI2347DS-T1-BE3; Price: -; Package / Case: SOT-23-3; Operating Temperature: -55°C~150°C; Drain to Source Voltage (Vds): 30V; Supplier 1: Vishay / Siliconix; Library Ref: Mosfet; Supplier Part Number 1: 78-SI2347DS-T1-BE3; Current - Continuous Drain (Id) @25°C: 5A; Library Control - Checked Schematic: Yes; Drive Voltage (Max Rds On, Min Rds On): *; ComponentLink1Description: Datasheet; ComponentLink1URL: https://br.mouser.com/datasheet/2/427/si2347ds-1763950.pdf; ComponentLink2Description: Mouser; ComponentLink2URL: https://br.mouser.com/ProductDetail/Vishay-Siliconix/SI2347DS-T1-BE3?qs=CiayqK2gdcKO20jBryl1OQ%3D%3D
footprint SOT-23-3 (SOT223, 3-Leads, Body 2,90x2,40mm (avg), Pitch 1,83mm, IPC Medium Density)
pins: D, G, S

## SIRA52ADP-T1-RE3
designator Q?
MOSFET N-CH 40V 131A PowerPAK-SO-8; Manufacturer: Vishay Semiconductors; FET Type: N-Channel; Rds On (Max) @ Id, Vgs: 0.00163 @ 131 A, 4,5V; Input Capacitance (Ciss) (Max) @Vds: 5500 pF @ 20V; Vgs(th) (Max) Id: 2,4V @ 250 uA; Gate Charge (Qg) (Max) @ Vgs: 100 nC @ 0V; Library Control - Person that Checked Footprint: Pierre; Power Dissipation (Max): 48 W; Drive Voltage (Max Rds On, Min Rds On): 10V, 4,5V; Vgs (Max): 20V; Rise / Fall Time (Typ): 6 / 6 (ns); Part Number: SIRA52ADP-T1-RE3; Price: 1= 1,37, 10= 1,21, 100= 0,994 (USD); Package / Case: PowerPAK-SO-8; Operating Temperature: -55C~150C; Drain to Source Voltage (Vds): 40V; Supplier 1: Mouser; Library Ref: Mosfet; Supplier Part Number 1: 78-SIRA52ADP-T1-RE3; Current - Continuous Drain (Id) @25°C: 131 A; Library Control - Last Update: 23:08 (31/08/21); ComponentLink1Description: Datasheet; ComponentLink1URL: https://4donline.ihs.com/images/VipMasterIC/IC/VISH/VISH-S-A0006502533/VISH-S-A0006502533-1.pdf?hkey=CECEF36DEECDED6468708AAF2E19C0C6; ComponentLink2Description: Mouser; ComponentLink2URL: https://br.mouser.com/ProductDetail/Vishay-Semiconductors/SIRA52ADP-T1-RE3?qs=MLItCLRbWswFT4kThKQpXQ%3D%3D
footprint powerpack SO-8
pins: D, G, S

## SIRA90DP-T1-GE3
designator Q?, comment SiRA90DP-T1-GE3
MOSFET N-CH 30V 100A SO-8; Manufacturer: Vishay; FET Type: N-channel; Rds On (Max) @ Id, Vgs: 0,00115 @ 15A, 4,5V; Input Capacitance (Ciss) (Max) @Vds: 10 180pF@15 V; Vgs(th) (Max) Id: 2V@250uA; Gate Charge (Qg) (Max) @ Vgs: 153nC@10V; Library Control - Checked Footprint: Yes; Library Control - Person that Checked Footprint: Nikaum, Lucas; Library Control - Person that did the Last Update Footprint: Nikaum; Power Dissipation (Max): 104W; Drive Voltage (Max Rds On, Min Rds On): 4,5V , 10V; Vgs (Max): 20V; Rise / Fall Time (Typ): 63 / 27 (ns); Part Number: SiRA90DP-T1-GE3; Price: 1 = $1.36  10 = $1.22  100 = $0.952  500 = $0.786  1000 = $0.621; Package / Case: PowerPAK SO-8; Operating Temperature: -55 ~ 150°C; Drain to Source Voltage (Vds): 30V; Supplier 1: Mouser; Library Ref: Mosfet; Supplier Part Number 1: 78-SIRA90DP-T1-GE3; Current - Continuous Drain (Id) @25°C: 100A; Library Control - Checked Schematic: Yes; Library Control - Last Update: 20/06/2021; Library Control - Person that Checked Schematic: Nikaum, Lucas; Library Control - Person that did the Last Update Schematic: Nikaum, Lucas; ComponentLink1Description: Datasheet; ComponentLink1URL: https://br.mouser.com/datasheet/2/427/sira90dp-1764888.pdf; ComponentLink2Description: Mouser; ComponentLink2URL: https://br.mouser.com/ProductDetail/Vishay-Semiconductors/SIRA90DP-T1-GE3?qs=NSAOzM2zc%2FWM%2FQkDM84xOw%3D%3D
footprint powerpack SO-8
pins: D, G, S

## SQD50P04-09L_GE3
designator Q?
MOSFET P-CH 40V TO-252-3; Manufacturer: Vishay / Siliconix; FET Type: P- channel; Rds On (Max) @ Id, Vgs: 0,017Ohm@-50A, -10V; Input Capacitance (Ciss) (Max) @Vds: 6675pF@-20V; Vgs(th) (Max) Id: 2.5V; Current - Continuous Drain (Id) @25°C: 50A; Gate Charge (Qg) (Max) @ Vgs: 155 nC@-10V; Power Dissipation (Max): 136 W; Drive Voltage (Max Rds On, Min Rds On): 10V, 4.5V; Vgs (Max): 20V; Rise / Fall Time (Typ): 15ns/19ns; Part Number: SQD50P04-09L_GE3; Price: 1= 3,07, 10= 2,77, 100= 2,62 (USD); Package / Case: TO-252-3; Operating Temperature: -55C ~ +175C; Drain to Source Voltage (Vds): 40V; Supplier 1: Mouser; Library Ref: Mosfet; Supplier Part Number 1: 78-SQD50P04-09L_GE3; ComponentLink1Description: Datasheet; ComponentLink1URL: https://br.mouser.com/datasheet/2/427/sqd50p04-1764563.pdf; ComponentLink2Description: Mouser; ComponentLink2URL: https://br.mouser.com/ProductDetail/Vishay-Siliconix/SQD50P04-09L_GE3?qs=jHkklCh7amiWGBpNycQWww%3D%3D
footprint TO-252-3 (D-PAK, 3-Pads, Body 6,21x6,73mm (max), IPC Medium Density)
pins: D, G, S

## STD130N6F7
designator Q?
MOSFET N-CH 60V 80A  DPAK-3; Manufacturer: ST; FET Type: N-Channel; Vgs(th) (Max) Id: 3V @ 250 uA; Gate Charge (Qg) (Max) @ Vgs: 42 nC @ 0V; Vgs (Max): -+20V; Rise / Fall Time (Typ): 3 / 5 (ns); Part Number: STD130N6F7; Price: 1= 1.56, 10= 1.29, 100= 0.993(USD); Package / Case: DPAK-3; Operating Temperature: -55C~150C; Rds On (Max) @ Id, Vgs: -; Input Capacitance (Ciss) (Max) @Vds: -; Drain to Source Voltage (Vds): 60V; Supplier 1: Mouser; Library Ref: Mosfet; Supplier Part Number 1: 511-STD130N6F7; Current - Continuous Drain (Id) @25°C: 80A; Drive Voltage (Max Rds On, Min Rds On): -; ComponentLink1Description: Datasheet; ComponentLink1URL: https://br.mouser.com/datasheet/2/389/dm00256820-1798829.pdf; ComponentLink2Description: Mouser; ComponentLink2URL: https://br.mouser.com/ProductDetail/STMicroelectronics/STD130N6F7?qs=qVqInAHJvrb%2FbXnq3eOnIg%3D%3D
footprint DPAK-3
pins: 1 G, 2 D, 3 S

## STL90N6F7
designator Q?
MOSFETs N-CH 60 V, 0.0046 Ohm typ., 90 A STripFET F7 Power MOSFET in a PowerFLAT 5x6-8; Manufacturer: STMicroelectronics; Transistor Polarity: N-Channel; Number of Channels: 1 Channel; Vds - Drain-Source Breakdown Voltage: 60 V; Id - Continuous Drain Current: 90 A; Rds On - Drain-Source Resistance: 5.4 mOhms; Vgs - Gate-Source Voltage: - 20 V, + 20 V; Vgs th - Gate-Source Threshold Voltage: 2 V; Qg - Gate Charge: 25 nC; Pd - Power Dissipation: 94 W; Channel Mode: Enhancement; Product Category: MOSFETs; Technology: Si; Mounting Style: SMD/SMT; Package / Case: PowerFLAT-5x6-8; Minimum Operating Temperature: - 55 C; Maximum Operating Temperature: + 175 C
footprint STL90N6F7
pins: D, G, S

## SUM60061EL-GE3
designator *
footprint D2PAK-3 (TO-263-3)
pins: 1 S, 2 G, 3 D